# Altium schematic symbol library pporyzala-TI_Lighting.SchLib: 745 symbols (part 9 of 48)
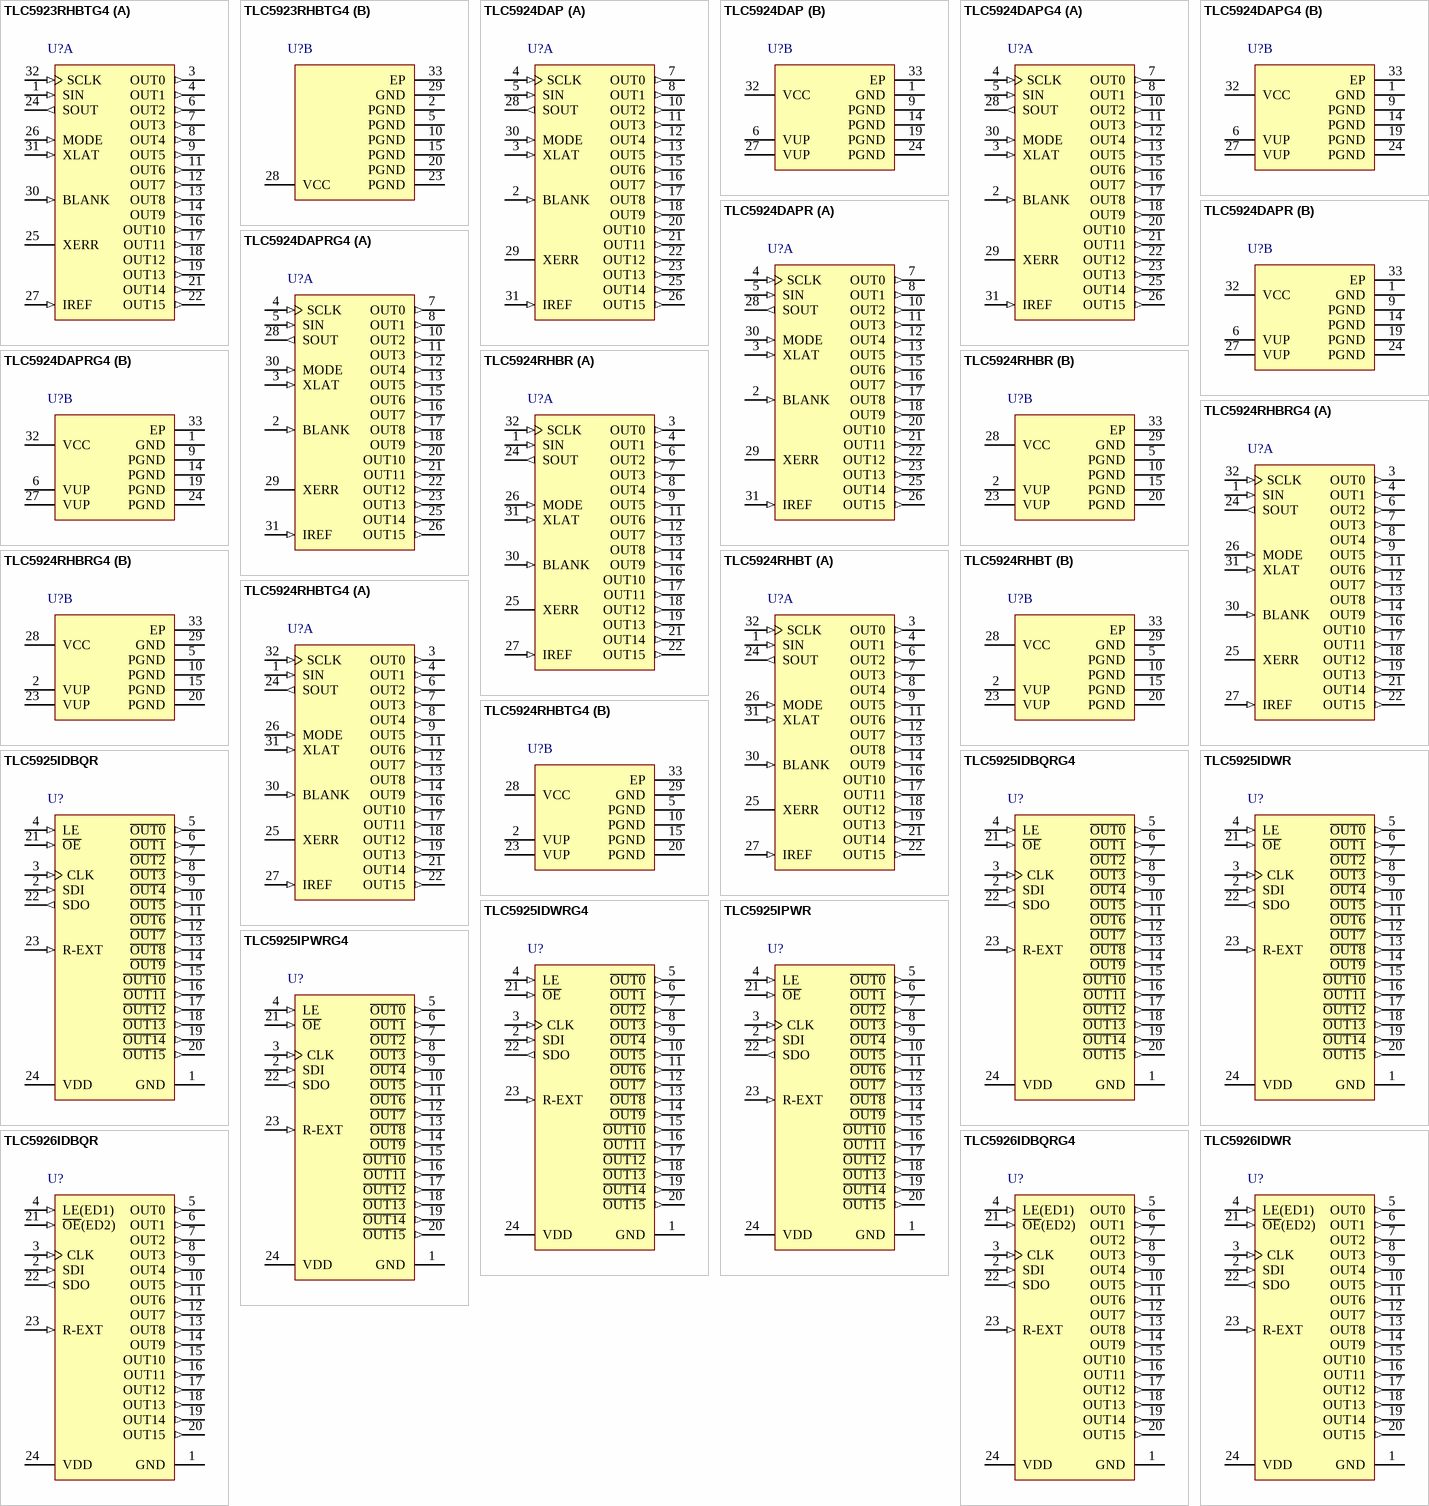
[diagram p39: symbols TLC5923RHBTG4 to TLC5926IDWR]

## TLC5925IPWR
designator U?
Low-Power 16-Channel Constant-Current LED Sink Driver, 3 to 5.5 V, -40 to 85 degC, 24-pin SOP (PW24), Green (RoHS & no Sb/Br); Manufacturer: Texas Instruments; PartNumber: TLC5925IPWR; Iout(Max)(A): 0.045; Rating: Catalog; SubFamily: Signage/Linear; Vin(Max)(V): 5.5; Vin(Min)(V): 3; DatasheetVersion: SLVS765; PackageVersion: 4040064-6/G; PackageReference: PW24; PackageDescription: 24-Pin Plastic Small Outline, Body 7.8 x 4.4 mm, Pitch 0.65 mm; Supplier 1: Digi-Key; Supplier Part Number 1: 296-24466-2-ND; Supplier 2: Digi-Key; Supplier Part Number 2: 296-24466-1-ND; Supplier 3: Digi-Key; Supplier Part Number 3: 296-24466-6-ND; Supplier 4: Farnell; Supplier Part Number 4: 1694439; Supplier 5: Farnell; Supplier Part Number 5: 1694439RL; Supplier 6: Newark; Supplier Part Number 6: 46P3785; Supplier 7: Newark; Supplier Part Number 7: 25P9046; Supplier 8: Mouser; Supplier Part Number 8: 595-TLC5925IPWR; Eco-Plan: Green (RoHS & no Sb/Br); Mounting Technology: Surface Mount; Code_JEDEC: MO-153; ComponentLink1Description: Manufacturer URL; ComponentLink1URL: http://www.ti.com/; ComponentLink2Description: Datasheet; ComponentLink2URL: http://www.ti.com/general/docs/lit/getliterature.tsp?genericPartNumber=TLC5925&fileType=pdf; ComponentLink3Description: Package Specification; ComponentLink3URL: http://www.ti.com/litv/pdf/mpds363
footprint TI-PW24_N (SOP, 24-Leads, Body 7.8x4.4mm, Pitch 0.65mm, , IPC Medium Density)
footprint TI-PW24_L (SOP, 24-Leads, Body 7.8x4.4mm, Pitch 0.65mm, , IPC High Density)
footprint TI-PW24_M (SOP, 24-Leads, Body 7.8x4.4mm, Pitch 0.65mm, , IPC Low Density)
pins: 1 GND (power) "Ground for control logic and current sink", 2 SDI (in) "Serial-data input to the Shift register", 3 CLK (in) "Clock input for data shift on rising edge", 4 LE (in) "Data strobe input Serial data is transferred to the respective latch when LE is high.The data is latched when LE low.LE has an internal pull-down resistor.", 5 ~{OUT0} (out) "Constant-current output", 6 ~{OUT1} (out) "Constant-current output", 7 ~{OUT2} (out) "Constant-current output", 8 ~{OUT3} (out) "Constant-current output", 9 ~{OUT4} (out) "Constant-current output", 10 ~{OUT5} (out) "Constant-current output", 11 ~{OUT6} (out) "Constant-current output", 12 ~{OUT7} (out) "Constant-current output", 13 ~{OUT8} (out) "Constant-current output", 14 ~{OUT9} (out) "Constant-current output", 15 ~{OUT10} (out) "Constant-current output", 16 ~{OUT11} (out) "Constant-current output", 17 ~{OUT12} (out) "Constant-current output", 18 ~{OUT13} (out) "Constant-current output", 19 ~{OUT14} (out) "Constant-current output", 20 ~{OUT15} (out) "Constant-current output", 21 ~{OE} (in) "Output enable.When O\E\ is active (low), the output driver are enabled.When O\E\ is high ,all output drivers are turned OFF (blanked). O\E\ has an internal pullup resistor.", 22 SDO (out) "Serial-data output to the following SDI of next driver IC or to the microcontroller", 23 R-EXT (in) "Input used to connect an external resistor (Rext) for setting output currents", 24 VDD (power) "Supply voltage"

## TLC5925IPWRG4
designator U?
Low-Power 16-Channel Constant-Current LED Sink Driver, 3 to 5.5 V, -40 to 85 degC, 24-pin SOP (PW24), Green (RoHS & no Sb/Br); Manufacturer: Texas Instruments; PartNumber: TLC5925IPWRG4; Iout(Max)(A): 0.045; Rating: Catalog; SubFamily: Signage/Linear; Vin(Max)(V): 5.5; Vin(Min)(V): 3; DatasheetVersion: SLVS765; PackageVersion: 4040064-6/G; PackageReference: PW24; PackageDescription: 24-Pin Plastic Small Outline, Body 7.8 x 4.4 mm, Pitch 0.65 mm; Supplier 1: Digi-Key; Supplier Part Number 1: TLC5925IPWRG4-ND; Supplier 2: Newark; Supplier Part Number 2: 25P9047; Supplier 3: Mouser; Supplier Part Number 3: 595-TLC5925IPWRG4; Eco-Plan: Green (RoHS & no Sb/Br); Mounting Technology: Surface Mount; Code_JEDEC: MO-153; ComponentLink1Description: Manufacturer URL; ComponentLink1URL: http://www.ti.com/; ComponentLink2Description: Datasheet; ComponentLink2URL: http://www.ti.com/general/docs/lit/getliterature.tsp?genericPartNumber=TLC5925&fileType=pdf; ComponentLink3Description: Package Specification; ComponentLink3URL: http://www.ti.com/litv/pdf/mpds363
footprint TI-PW24_N (SOP, 24-Leads, Body 7.8x4.4mm, Pitch 0.65mm, , IPC Medium Density)
footprint TI-PW24_L (SOP, 24-Leads, Body 7.8x4.4mm, Pitch 0.65mm, , IPC High Density)
footprint TI-PW24_M (SOP, 24-Leads, Body 7.8x4.4mm, Pitch 0.65mm, , IPC Low Density)
pins: 1 GND (power) "Ground for control logic and current sink", 2 SDI (in) "Serial-data input to the Shift register", 3 CLK (in) "Clock input for data shift on rising edge", 4 LE (in) "Data strobe input Serial data is transferred to the respective latch when LE is high.The data is latched when LE low.LE has an internal pull-down resistor.", 5 ~{OUT0} (out) "Constant-current output", 6 ~{OUT1} (out) "Constant-current output", 7 ~{OUT2} (out) "Constant-current output", 8 ~{OUT3} (out) "Constant-current output", 9 ~{OUT4} (out) "Constant-current output", 10 ~{OUT5} (out) "Constant-current output", 11 ~{OUT6} (out) "Constant-current output", 12 ~{OUT7} (out) "Constant-current output", 13 ~{OUT8} (out) "Constant-current output", 14 ~{OUT9} (out) "Constant-current output", 15 ~{OUT10} (out) "Constant-current output", 16 ~{OUT11} (out) "Constant-current output", 17 ~{OUT12} (out) "Constant-current output", 18 ~{OUT13} (out) "Constant-current output", 19 ~{OUT14} (out) "Constant-current output", 20 ~{OUT15} (out) "Constant-current output", 21 ~{OE} (in) "Output enable.When O\E\ is active (low), the output driver are enabled.When O\E\ is high ,all output drivers are turned OFF (blanked). O\E\ has an internal pullup resistor.", 22 SDO (out) "Serial-data output to the following SDI of next driver IC or to the microcontroller", 23 R-EXT (in) "Input used to connect an external resistor (Rext) for setting output currents", 24 VDD (power) "Supply voltage"

## TLC5926IDBQR
designator U?
16-Bit Constant-Current LED Sink Driver, 3 to 5.5 V, -40 to 85 degC, 24-pin SOP (DBQ24), Green (RoHS & no Sb/Br); Manufacturer: Texas Instruments; PartNumber: TLC5926IDBQR; Rating: Catalog; SubFamily: LED Driver; Vin(Max)(V): 5.5; Vin(Min)(V): 3; DatasheetVersion: SLVS677; PackageVersion: 4073301-4/H; PackageReference: DBQ24; PackageDescription: 24-Pin Plastic Small-Outline, Body 8.65 x 3.90 mm, Pitch 0.635 mm; Supplier 1: Digi-Key; Supplier Part Number 1: 296-24760-2-ND; Supplier 2: Digi-Key; Supplier Part Number 2: 296-24760-1-ND; Supplier 3: Digi-Key; Supplier Part Number 3: 296-24760-6-ND; Supplier 4: Newark; Supplier Part Number 4: 03P5000; Supplier 5: Mouser; Supplier Part Number 5: 595-TLC5926IDBQR; Eco-Plan: Green (RoHS & no Sb/Br); Mounting Technology: Surface Mount; Code_JEDEC: MO-137; ComponentLink1Description: Manufacturer URL; ComponentLink1URL: http://www.ti.com/; ComponentLink2Description: Datasheet; ComponentLink2URL: http://www.ti.com/general/docs/lit/getliterature.tsp?genericPartNumber=TLC5926&fileType=pdf; ComponentLink3Description: Package Specification; ComponentLink3URL: http://www.ti.com/litv/pdf/mpds211a
footprint TI-DBQ24_N (SOP, 24-Leads, Body 8.65x6mm, Pitch 0.635mm, IPC Medium Density)
footprint TI-DBQ24_L (SOP, 24-Leads, Body 8.65x6mm, Pitch 0.635mm, IPC High Density)
footprint TI-DBQ24_M (SOP, 24-Leads, Body 8.65x6mm, Pitch 0.635mm, IPC Low Density)
pins: 1 GND (power) "Ground pin for control logic and current sink", 2 SDI (in) "Serial-data input to the Shift register", 3 CLK (in) "Clock input pin for data shift on rising edge", 4 LE(ED1) (in) "Data strobe input pn Serial data is transferred to the respective latch when LE(ED1) is high. The data is latched when LE(ED1) goes low. Also, a control signal input for an Error Detection mode and Current Adjust mode (See (See Datasheet)", 5 OUT0 (out) "Constant-current output pin", 6 OUT1 (out) "Constant-current output pin", 7 OUT2 (out) "Constant-current output pin", 8 OUT3 (out) "Constant-current output pin", 9 OUT4 (out) "Constant-current output pin", 10 OUT5 (out) "Constant-current output pin", 11 OUT6 (out) "Constant-current output pin", 12 OUT7 (out) "Constant-current output pin", 13 OUT8 (out) "Constant-current output pin", 14 OUT9 (out) "Constant-current output pin", 15 OUT10 (out) "Constant-current output pin", 16 OUT11 (out) "Constant-current output pin", 17 OUT12 (out) "Constant-current output pin", 18 OUT13 (out) "Constant-current output pin", 19 OUT14 (out) "Constant-current output pin", 20 OUT15 (out) "Constant-current output pin", 21 ~{OE}(ED2) (in) "Output enable pin. When O\E\(ED2)(active) is low, the output drivers are enabled; when O\E\(ED2) is high, all output drivers are turned OFF (blanked). Also, a control signal input for an Error Detection mode and Current (See Datasheet)", 22 SDO (out) "Serial-data output to the following SDI of next driver IC or to the microcontroller", 23 R-EXT (in) "Input pin used to connect an external resistor for setting up all output currents", 24 VDD (power) "Supply voltage pin"

## TLC5926IDBQRG4
designator U?
16-Bit Constant-Current LED Sink Driver, 3 to 5.5 V, -40 to 85 degC, 24-pin SOP (DBQ24), Green (RoHS & no Sb/Br); Manufacturer: Texas Instruments; PartNumber: TLC5926IDBQRG4; Rating: Catalog; SubFamily: LED Driver; Vin(Max)(V): 5.5; Vin(Min)(V): 3; DatasheetVersion: SLVS677; PackageVersion: 4073301-4/H; PackageReference: DBQ24; PackageDescription: 24-Pin Plastic Small-Outline, Body 8.65 x 3.90 mm, Pitch 0.635 mm; Supplier 1: Digi-Key; Supplier Part Number 1: TLC5926IDBQRG4-ND; Supplier 2: Mouser; Supplier Part Number 2: 595-TLC5926IDBQRG4; Eco-Plan: Green (RoHS & no Sb/Br); Mounting Technology: Surface Mount; Code_JEDEC: MO-137; ComponentLink1Description: Manufacturer URL; ComponentLink1URL: http://www.ti.com/; ComponentLink2Description: Datasheet; ComponentLink2URL: http://www.ti.com/general/docs/lit/getliterature.tsp?genericPartNumber=TLC5926&fileType=pdf; ComponentLink3Description: Package Specification; ComponentLink3URL: http://www.ti.com/litv/pdf/mpds211a
footprint TI-DBQ24_N (SOP, 24-Leads, Body 8.65x6mm, Pitch 0.635mm, IPC Medium Density)
footprint TI-DBQ24_L (SOP, 24-Leads, Body 8.65x6mm, Pitch 0.635mm, IPC High Density)
footprint TI-DBQ24_M (SOP, 24-Leads, Body 8.65x6mm, Pitch 0.635mm, IPC Low Density)
pins: 1 GND (power) "Ground pin for control logic and current sink", 2 SDI (in) "Serial-data input to the Shift register", 3 CLK (in) "Clock input pin for data shift on rising edge", 4 LE(ED1) (in) "Data strobe input pn Serial data is transferred to the respective latch when LE(ED1) is high. The data is latched when LE(ED1) goes low. Also, a control signal input for an Error Detection mode and Current Adjust mode (See (See Datasheet)", 5 OUT0 (out) "Constant-current output pin", 6 OUT1 (out) "Constant-current output pin", 7 OUT2 (out) "Constant-current output pin", 8 OUT3 (out) "Constant-current output pin", 9 OUT4 (out) "Constant-current output pin", 10 OUT5 (out) "Constant-current output pin", 11 OUT6 (out) "Constant-current output pin", 12 OUT7 (out) "Constant-current output pin", 13 OUT8 (out) "Constant-current output pin", 14 OUT9 (out) "Constant-current output pin", 15 OUT10 (out) "Constant-current output pin", 16 OUT11 (out) "Constant-current output pin", 17 OUT12 (out) "Constant-current output pin", 18 OUT13 (out) "Constant-current output pin", 19 OUT14 (out) "Constant-current output pin", 20 OUT15 (out) "Constant-current output pin", 21 ~{OE}(ED2) (in) "Output enable pin. When O\E\(ED2)(active) is low, the output drivers are enabled; when O\E\(ED2) is high, all output drivers are turned OFF (blanked). Also, a control signal input for an Error Detection mode and Current (See Datasheet)", 22 SDO (out) "Serial-data output to the following SDI of next driver IC or to the microcontroller", 23 R-EXT (in) "Input pin used to connect an external resistor for setting up all output currents", 24 VDD (power) "Supply voltage pin"

## TLC5926IDWR
designator U?
16-Bit Constant-Current LED Sink Driver, 3 to 5.5 V, -40 to 85 degC, 24-pin SOIC (DW24), Green (RoHS & no Sb/Br); Manufacturer: Texas Instruments; PartNumber: TLC5926IDWR; Rating: Catalog; SubFamily: LED Driver; Vin(Max)(V): 5.5; Vin(Min)(V): 3; DatasheetVersion: SLVS677; PackageVersion: 4040000-5/G; PackageReference: DW24; PackageDescription: 24-Pin Plastic Small Outline, Body 15.4 x 7.5 mm, Pitch 1.27 mm; Supplier 1: Digi-Key; Supplier Part Number 1: 296-24467-2-ND; Supplier 2: Digi-Key; Supplier Part Number 2: 296-24467-1-ND; Supplier 3: Digi-Key; Supplier Part Number 3: 296-24467-6-ND; Supplier 4: Newark; Supplier Part Number 4: 45P8216; Supplier 5: Mouser; Supplier Part Number 5: 595-TLC5926IDWR; Eco-Plan: Green (RoHS & no Sb/Br); Mounting Technology: Surface Mount; Code_JEDEC: MS-013; ComponentLink1Description: Manufacturer URL; ComponentLink1URL: http://www.ti.com/; ComponentLink2Description: Datasheet; ComponentLink2URL: http://www.ti.com/general/docs/lit/getliterature.tsp?genericPartNumber=TLC5926&fileType=pdf; ComponentLink3Description: Package Specification; ComponentLink3URL: http://www.ti.com/litv/pdf/mpds174a
footprint TI-DW24_N (SOIC, 24-Leads, Body 15.4x7.5mm, Pitch 1.27mm, IPC Medium Density)
footprint TI-DW24_L (SOIC, 24-Leads, Body 15.4x7.5mm, Pitch 1.27mm, IPC High Density)
footprint TI-DW24_M (SOIC, 24-Leads, Body 15.4x7.5mm, Pitch 1.27mm, IPC Low Density)
pins: 1 GND (power) "Ground pin for control logic and current sink", 2 SDI (in) "Serial-data input to the Shift register", 3 CLK (in) "Clock input pin for data shift on rising edge", 4 LE(ED1) (in) "Data strobe input pn Serial data is transferred to the respective latch when LE(ED1) is high. The data is latched when LE(ED1) goes low. Also, a control signal input for an Error Detection mode and Current Adjust mode (See (See Datasheet)", 5 OUT0 (out) "Constant-current output pin", 6 OUT1 (out) "Constant-current output pin", 7 OUT2 (out) "Constant-current output pin", 8 OUT3 (out) "Constant-current output pin", 9 OUT4 (out) "Constant-current output pin", 10 OUT5 (out) "Constant-current output pin", 11 OUT6 (out) "Constant-current output pin", 12 OUT7 (out) "Constant-current output pin", 13 OUT8 (out) "Constant-current output pin", 14 OUT9 (out) "Constant-current output pin", 15 OUT10 (out) "Constant-current output pin", 16 OUT11 (out) "Constant-current output pin", 17 OUT12 (out) "Constant-current output pin", 18 OUT13 (out) "Constant-current output pin", 19 OUT14 (out) "Constant-current output pin", 20 OUT15 (out) "Constant-current output pin", 21 ~{OE}(ED2) (in) "Output enable pin. When O\E\(ED2)(active) is low, the output drivers are enabled; when O\E\(ED2) is high, all output drivers are turned OFF (blanked). Also, a control signal input for an Error Detection mode and Current (See Datasheet)", 22 SDO (out) "Serial-data output to the following SDI of next driver IC or to the microcontroller", 23 R-EXT (in) "Input pin used to connect an external resistor for setting up all output currents", 24 VDD (power) "Supply voltage pin"

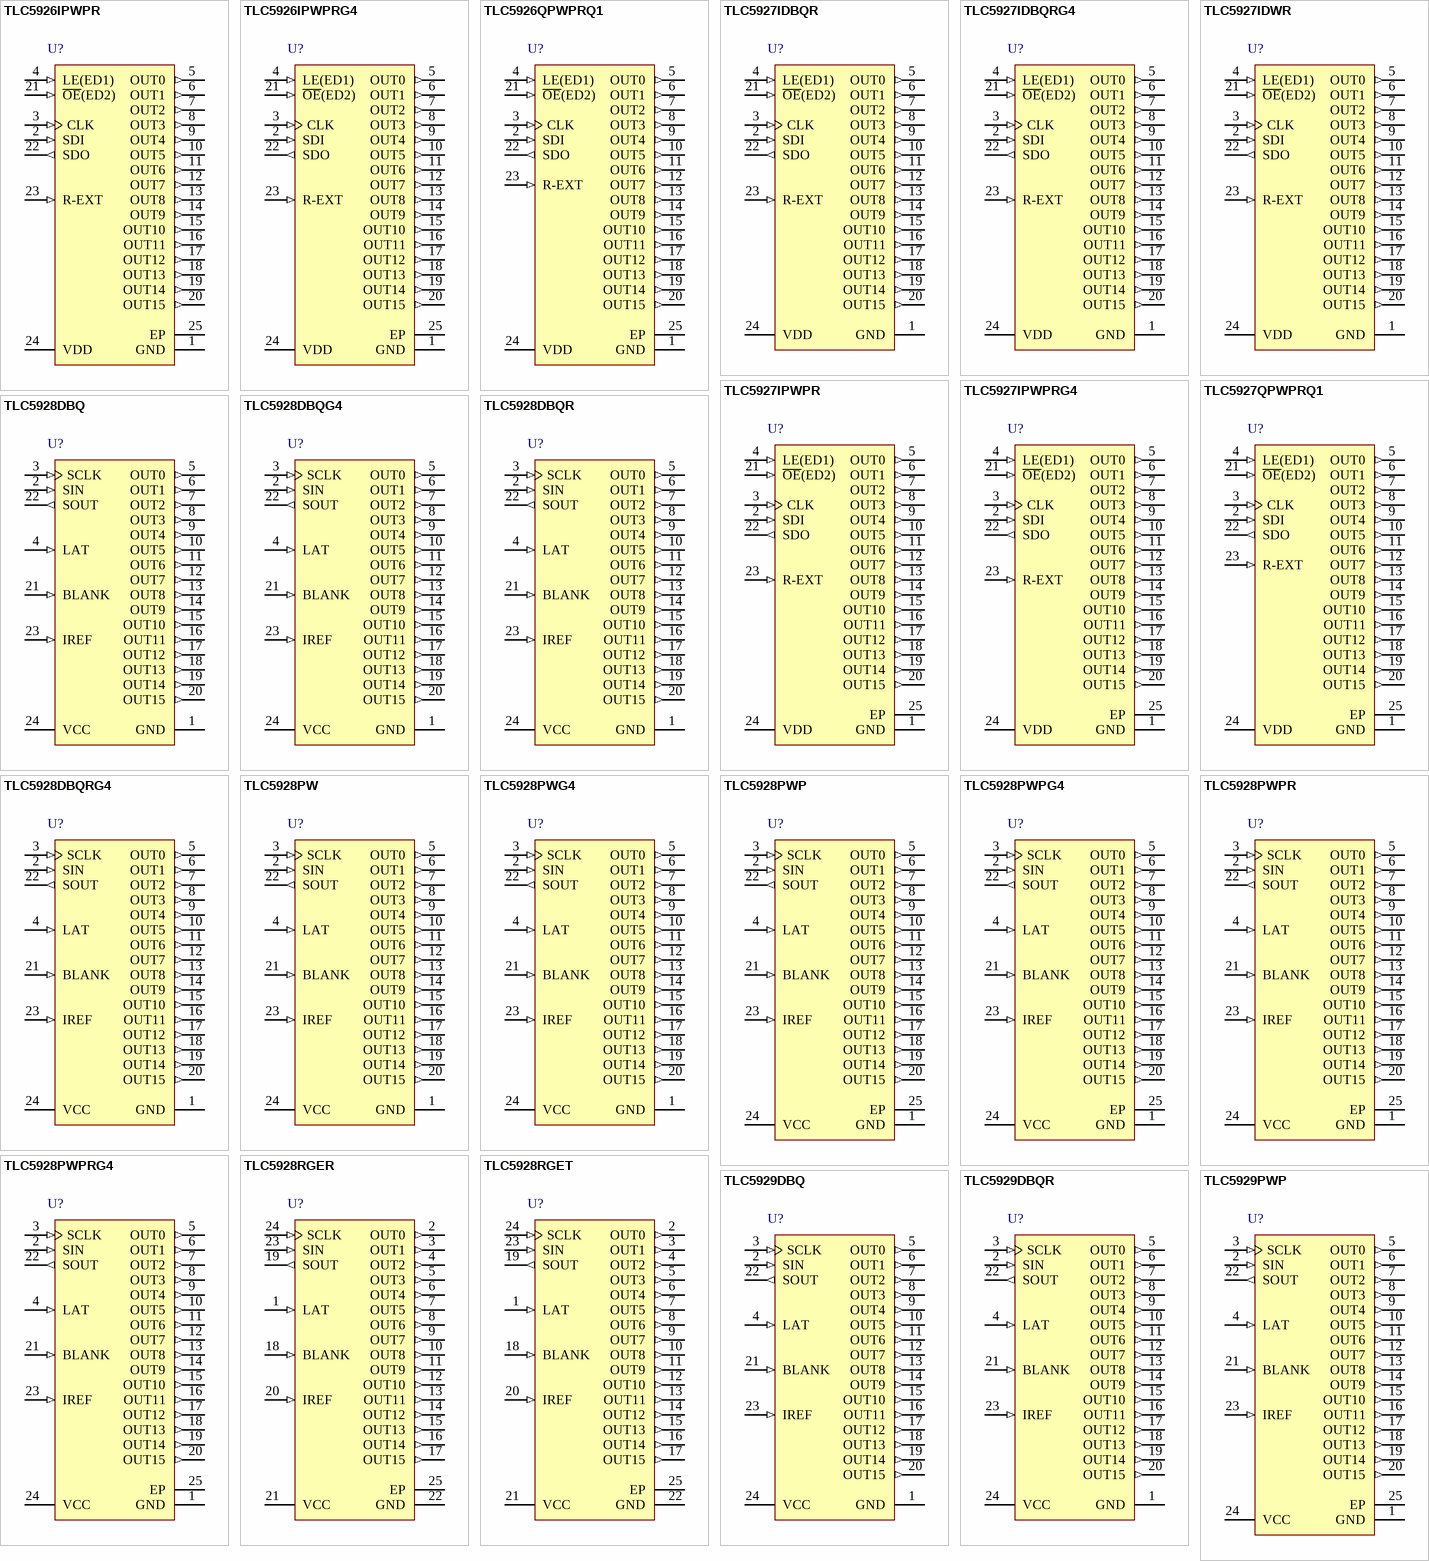
[diagram p7: symbols TLC5926IPWPR to TLC5929PWP]

## TLC5926IPWPR
designator U?
16-Bit Constant-Current LED Sink Driver, 3 to 5.5 V, -40 to 85 degC, 24-pin SOP (PWP24), Green (RoHS & no Sb/Br); Manufacturer: Texas Instruments; PartNumber: TLC5926IPWPR; Rating: Catalog; SubFamily: LED Driver; Vin(Max)(V): 5.5; Vin(Min)(V): 3; DatasheetVersion: SLVS677; PackageVersion: 4073225-5/I; PackageReference: PWP24-4420X1950TP; PackageDescription: 24-Lead, Plastic Small Outline, Body Size 4.4 x 7.8 mm, Pitch 0.65 mm; Supplier 1: Digi-Key; Supplier Part Number 1: 296-24761-2-ND; Supplier 2: Digi-Key; Supplier Part Number 2: 296-24761-1-ND; Supplier 3: Digi-Key; Supplier Part Number 3: 296-24761-6-ND; Supplier 4: Newark; Supplier Part Number 4: 03P5002; Supplier 5: Mouser; Supplier Part Number 5: 595-TLC5926IPWPR; Eco-Plan: Green (RoHS & no Sb/Br); Mounting Technology: Surface Mount; Code_JEDEC: MO-153; ComponentLink1Description: Manufacturer URL; ComponentLink1URL: http://www.ti.com/; ComponentLink2Description: Datasheet; ComponentLink2URL: http://www.ti.com/general/docs/lit/getliterature.tsp?genericPartNumber=TLC5926&fileType=pdf; ComponentLink3Description: Package Specification; ComponentLink3URL: http://www.ti.com/lit/ds/symlink/tps65101.pdf
footprint TI-PWP24-4420X1950TP_N (SOP, 24-Leads, Body 7.8x4.4mm, Pitch 0.65mm, Thermal Pad 4.42x1.95mm, IPC Medium Density)
footprint TI-PWP24-4420X1950TP_L (SOP, 24-Leads, Body 7.8x4.4mm, Pitch 0.65mm, Thermal Pad 4.42x1.95mm, IPC High Density)
footprint TI-PWP24-4420X1950TP_M (SOP, 24-Leads, Body 7.8x4.4mm, Pitch 0.65mm, Thermal Pad 4.42x1.95mm, IPC Low Density)
pins: 1 GND (power) "Ground pin for control logic and current sink", 2 SDI (in) "Serial-data input to the Shift register", 3 CLK (in) "Clock input pin for data shift on rising edge", 4 LE(ED1) (in) "Data strobe input pin Serial data is transferred to the respective latch when LE(ED1) is high. The data is latched when LE(ED1) goes low. Also, a control signal input for an Error Detection mode and Current Adjust mode (See (See Datasheet)", 5 OUT0 (out) "Constant-current output pin", 6 OUT1 (out) "Constant-current output pin", 7 OUT2 (out) "Constant-current output pin", 8 OUT3 (out) "Constant-current output pin", 9 OUT4 (out) "Constant-current output pin", 10 OUT5 (out) "Constant-current output pin", 11 OUT6 (out) "Constant-current output pin", 12 OUT7 (out) "Constant-current output pin", 13 OUT8 (out) "Constant-current output pin", 14 OUT9 (out) "Constant-current output pin", 15 OUT10 (out) "Constant-current output pin", 16 OUT11 (out) "Constant-current output pin", 17 OUT12 (out) "Constant-current output pin", 18 OUT13 (out) "Constant-current output pin", 19 OUT14 (out) "Constant-current output pin", 20 OUT15 (out) "Constant-current output pin", 21 ~{OE}(ED2) (in) "Output enable pin. When O\E\ (ED2)(active) is low, the output drivers are enabled; when O\E\(ED2) is high, all output drivers are turned OFF (blanked). Also, a control signal input for an Error Detection mode and Current (See Datasheet)", 22 SDO (out) "Serial-data output to the following SDI of next driver IC or to the microcontroller", 23 R-EXT (in) "Input pin used to connect an external resistor for setting up all output currents", 24 VDD (power) "Supply voltage pin", 25 EP "Exposed thermal pad"

## TLC5926IPWPRG4
designator U?
16-Bit Constant-Current LED Sink Driver, 3 to 5.5 V, -40 to 85 degC, 24-pin SOP (PWP24), Green (RoHS & no Sb/Br); Manufacturer: Texas Instruments; PartNumber: TLC5926IPWPRG4; Rating: Catalog; SubFamily: LED Driver; Vin(Max)(V): 5.5; Vin(Min)(V): 3; DatasheetVersion: SLVS677; PackageVersion: 4073225-5/I; PackageReference: PWP24-4420X1950TP; PackageDescription: 24-Lead, Plastic Small Outline, Body Size 4.4 x 7.8 mm, Pitch 0.65 mm; Supplier 1: Digi-Key; Supplier Part Number 1: TLC5926IPWPRG4-ND; Supplier 2: Mouser; Supplier Part Number 2: 595-TLC5926IPWPRG4; Eco-Plan: Green (RoHS & no Sb/Br); Mounting Technology: Surface Mount; Code_JEDEC: MO-153; ComponentLink1Description: Manufacturer URL; ComponentLink1URL: http://www.ti.com/; ComponentLink2Description: Datasheet; ComponentLink2URL: http://www.ti.com/general/docs/lit/getliterature.tsp?genericPartNumber=TLC5926&fileType=pdf; ComponentLink3Description: Package Specification; ComponentLink3URL: http://www.ti.com/lit/ds/symlink/tps65101.pdf
footprint TI-PWP24-4420X1950TP_N (SOP, 24-Leads, Body 7.8x4.4mm, Pitch 0.65mm, Thermal Pad 4.42x1.95mm, IPC Medium Density)
footprint TI-PWP24-4420X1950TP_L (SOP, 24-Leads, Body 7.8x4.4mm, Pitch 0.65mm, Thermal Pad 4.42x1.95mm, IPC High Density)
footprint TI-PWP24-4420X1950TP_M (SOP, 24-Leads, Body 7.8x4.4mm, Pitch 0.65mm, Thermal Pad 4.42x1.95mm, IPC Low Density)
pins: 1 GND (power) "Ground pin for control logic and current sink", 2 SDI (in) "Serial-data input to the Shift register", 3 CLK (in) "Clock input pin for data shift on rising edge", 4 LE(ED1) (in) "Data strobe input pin Serial data is transferred to the respective latch when LE(ED1) is high. The data is latched when LE(ED1) goes low. Also, a control signal input for an Error Detection mode and Current Adjust mode (See (See Datasheet)", 5 OUT0 (out) "Constant-current output pin", 6 OUT1 (out) "Constant-current output pin", 7 OUT2 (out) "Constant-current output pin", 8 OUT3 (out) "Constant-current output pin", 9 OUT4 (out) "Constant-current output pin", 10 OUT5 (out) "Constant-current output pin", 11 OUT6 (out) "Constant-current output pin", 12 OUT7 (out) "Constant-current output pin", 13 OUT8 (out) "Constant-current output pin", 14 OUT9 (out) "Constant-current output pin", 15 OUT10 (out) "Constant-current output pin", 16 OUT11 (out) "Constant-current output pin", 17 OUT12 (out) "Constant-current output pin", 18 OUT13 (out) "Constant-current output pin", 19 OUT14 (out) "Constant-current output pin", 20 OUT15 (out) "Constant-current output pin", 21 ~{OE}(ED2) (in) "Output enable pin. When O\E\ (ED2)(active) is low, the output drivers are enabled; when O\E\(ED2) is high, all output drivers are turned OFF (blanked). Also, a control signal input for an Error Detection mode and Current (See Datasheet)", 22 SDO (out) "Serial-data output to the following SDI of next driver IC or to the microcontroller", 23 R-EXT (in) "Input pin used to connect an external resistor for setting up all output currents", 24 VDD (power) "Supply voltage pin", 25 EP "Exposed thermal pad"

## TLC5926QPWPRQ1
designator U?
Automotive Catalog 16-Bit Constant-Current LED Sink Driver, 3 to 5.5 V, -40 to 125 degC, 24-pin SOP (PWP24), Green (RoHS & no Sb/Br); Manufacturer: Texas Instruments; PartNumber: TLC5926QPWPRQ1; Iout(Max)(A): 0.12; SubFamily: LED Driver; Vin(Max)(V): 5.5; Vin(Min)(V): 3; DatasheetVersion: SLVS973; PackageVersion: 4073225-5/I; PackageReference: PWP24-4420X1950TP; PackageDescription: 24-Lead, Plastic Small Outline, Body Size 4.4 x 7.8 mm, Pitch 0.65 mm; Supplier 1: Digi-Key; Supplier Part Number 1: 296-24948-2-ND; Supplier 2: Digi-Key; Supplier Part Number 2: 296-24948-1-ND; Supplier 3: Digi-Key; Supplier Part Number 3: 296-24948-6-ND; Supplier 4: Newark; Supplier Part Number 4: 24R9990; Supplier 5: Mouser; Supplier Part Number 5: 595-TLC5926QPWPRQ1; Eco-Plan: Green (RoHS & no Sb/Br); Mounting Technology: Surface Mount; Code_JEDEC: MO-153; ComponentLink1Description: Manufacturer URL; ComponentLink1URL: http://www.ti.com/; ComponentLink2Description: Datasheet; ComponentLink2URL: http://www.ti.com/general/docs/lit/getliterature.tsp?genericPartNumber=TLC5926-Q1&fileType=pdf; ComponentLink3Description: Package Specification; ComponentLink3URL: http://www.ti.com/lit/ds/symlink/tps65101.pdf
footprint TI-PWP24-4420X1950TP_N (SOP, 24-Leads, Body 7.8x4.4mm, Pitch 0.65mm, Thermal Pad 4.42x1.95mm, IPC Medium Density)
footprint TI-PWP24-4420X1950TP_L (SOP, 24-Leads, Body 7.8x4.4mm, Pitch 0.65mm, Thermal Pad 4.42x1.95mm, IPC High Density)
footprint TI-PWP24-4420X1950TP_M (SOP, 24-Leads, Body 7.8x4.4mm, Pitch 0.65mm, Thermal Pad 4.42x1.95mm, IPC Low Density)
pins: 1 GND (power) "Ground for control logic and current sink", 2 SDI (in) "Serial-data input to the Shift register", 3 CLK (in) "Clock input for data shift on rising edge", 4 LE(ED1) (in) "Data strobe input   Serial data is transferred to the respective latch when LE(ED1) is high. The data is latched when LE(ED1) goes low. Also, a control signal input for an Error Detection mode and Current Adjust mode (See (See Datasheet)", 5 OUT0 (out) "Constant-current output", 6 OUT1 (out) "Constant-current output", 7 OUT2 (out) "Constant-current output", 8 OUT3 (out) "Constant-current output", 9 OUT4 (out) "Constant-current output", 10 OUT5 (out) "Constant-current output", 11 OUT6 (out) "Constant-current output", 12 OUT7 (out) "Constant-current output", 13 OUT8 (out) "Constant-current output", 14 OUT9 (out) "Constant-current output", 15 OUT10 (out) "Constant-current output", 16 OUT11 (out) "Constant-current output", 17 OUT12 (out) "Constant-current output", 18 OUT13 (out) "Constant-current output", 19 OUT14 (out) "Constant-current output", 20 OUT15 (out) "Constant-current output", 21 ~{OE}(ED2) (in) "Output enable. When O\E\ (ED2)(active) is low, the output drivers are enabled; when O\E\(ED2) is high, all output drivers are turned OFF (blanked). Also, a control signal input for an Error Detection mode and Current Adjust (See Datasheet)", 22 SDO (out) "Serial-data output to the following SDI of next driver IC or to the microcontroller", 23 R-EXT (in) "Input pin used to connect an external resistor for setting up all output currents", 24 VDD (power) "Supply voltage", 25 EP (power) "Connect to GND. The thermal pad should be soldered to ground in all applications."

## TLC5927IDBQR
designator U?
16-Bit Constant-Current LED Sink Driver, 3 to 5.5 V, -40 to 85 degC, 24-pin SOP (DBQ24), Green (RoHS & no Sb/Br); Manufacturer: Texas Instruments; PartNumber: TLC5927IDBQR; Rating: Catalog; SubFamily: LED Driver; Vin(Max)(V): 5.5; Vin(Min)(V): 3; DatasheetVersion: SLVS677; PackageVersion: 4073301-4/H; PackageReference: DBQ24; PackageDescription: 24-Pin Plastic Small-Outline, Body 8.65 x 3.90 mm, Pitch 0.635 mm; Supplier 1: Digi-Key; Supplier Part Number 1: 296-24762-2-ND; Supplier 2: Digi-Key; Supplier Part Number 2: 296-24762-1-ND; Supplier 3: Digi-Key; Supplier Part Number 3: 296-24762-6-ND; Supplier 4: Farnell; Supplier Part Number 4: 1858095; Supplier 5: Farnell; Supplier Part Number 5: 1858095RL; Supplier 6: Farnell; Supplier Part Number 6: 1771998; Supplier 7: Newark; Supplier Part Number 7: 33R2185; Supplier 8: Mouser; Supplier Part Number 8: 595-TLC5927IDBQR; Eco-Plan: Green (RoHS & no Sb/Br); Mounting Technology: Surface Mount; Code_JEDEC: MO-137; ComponentLink1Description: Manufacturer URL; ComponentLink1URL: http://www.ti.com/; ComponentLink2Description: Datasheet; ComponentLink2URL: http://www.ti.com/general/docs/lit/getliterature.tsp?genericPartNumber=TLC5927&fileType=pdf; ComponentLink3Description: Package Specification; ComponentLink3URL: http://www.ti.com/litv/pdf/mpds211a
footprint TI-DBQ24_N (SOP, 24-Leads, Body 8.65x6mm, Pitch 0.635mm, IPC Medium Density)
footprint TI-DBQ24_L (SOP, 24-Leads, Body 8.65x6mm, Pitch 0.635mm, IPC High Density)
footprint TI-DBQ24_M (SOP, 24-Leads, Body 8.65x6mm, Pitch 0.635mm, IPC Low Density)
pins: 1 GND (power) "Ground pin for control logic and current sink", 2 SDI (in) "Serial-data input to the Shift register", 3 CLK (in) "Clock input pin for data shift on rising edge", 4 LE(ED1) (in) "Data strobe input pn Serial data is transferred to the respective latch when LE(ED1) is high. The data is latched when LE(ED1) goes low. Also, a control signal input for an Error Detection mode and Current Adjust mode (See (See Datasheet)", 5 OUT0 (out) "Constant-current output pin", 6 OUT1 (out) "Constant-current output pin", 7 OUT2 (out) "Constant-current output pin", 8 OUT3 (out) "Constant-current output pin", 9 OUT4 (out) "Constant-current output pin", 10 OUT5 (out) "Constant-current output pin", 11 OUT6 (out) "Constant-current output pin", 12 OUT7 (out) "Constant-current output pin", 13 OUT8 (out) "Constant-current output pin", 14 OUT9 (out) "Constant-current output pin", 15 OUT10 (out) "Constant-current output pin", 16 OUT11 (out) "Constant-current output pin", 17 OUT12 (out) "Constant-current output pin", 18 OUT13 (out) "Constant-current output pin", 19 OUT14 (out) "Constant-current output pin", 20 OUT15 (out) "Constant-current output pin", 21 ~{OE}(ED2) (in) "Output enable pin. When O\E\(ED2)(active) is low, the output drivers are enabled; when O\E\(ED2) is high, all output drivers are turned OFF (blanked). Also, a control signal input for an Error Detection mode and Current (See Datasheet)", 22 SDO (out) "Serial-data output to the following SDI of next driver IC or to the microcontroller", 23 R-EXT (in) "Input pin used to connect an external resistor for setting up all output currents", 24 VDD (power) "Supply voltage pin"

## TLC5927IDBQRG4
designator U?
16-Bit Constant-Current LED Sink Driver, 3 to 5.5 V, -40 to 85 degC, 24-pin SOP (DBQ24), Green (RoHS & no Sb/Br); Manufacturer: Texas Instruments; PartNumber: TLC5927IDBQRG4; Rating: Catalog; SubFamily: LED Driver; Vin(Max)(V): 5.5; Vin(Min)(V): 3; DatasheetVersion: SLVS677; PackageVersion: 4073301-4/H; PackageReference: DBQ24; PackageDescription: 24-Pin Plastic Small-Outline, Body 8.65 x 3.90 mm, Pitch 0.635 mm; Supplier 1: Digi-Key; Supplier Part Number 1: TLC5927IDBQRG4-ND; Supplier 2: Mouser; Supplier Part Number 2: 595-TLC5927IDBQRG4; Eco-Plan: Green (RoHS & no Sb/Br); Mounting Technology: Surface Mount; Code_JEDEC: MO-137; ComponentLink1Description: Manufacturer URL; ComponentLink1URL: http://www.ti.com/; ComponentLink2Description: Datasheet; ComponentLink2URL: http://www.ti.com/general/docs/lit/getliterature.tsp?genericPartNumber=TLC5927&fileType=pdf; ComponentLink3Description: Package Specification; ComponentLink3URL: http://www.ti.com/litv/pdf/mpds211a
footprint TI-DBQ24_N (SOP, 24-Leads, Body 8.65x6mm, Pitch 0.635mm, IPC Medium Density)
footprint TI-DBQ24_L (SOP, 24-Leads, Body 8.65x6mm, Pitch 0.635mm, IPC High Density)
footprint TI-DBQ24_M (SOP, 24-Leads, Body 8.65x6mm, Pitch 0.635mm, IPC Low Density)
pins: 1 GND (power) "Ground pin for control logic and current sink", 2 SDI (in) "Serial-data input to the Shift register", 3 CLK (in) "Clock input pin for data shift on rising edge", 4 LE(ED1) (in) "Data strobe input pn Serial data is transferred to the respective latch when LE(ED1) is high. The data is latched when LE(ED1) goes low. Also, a control signal input for an Error Detection mode and Current Adjust mode (See (See Datasheet)", 5 OUT0 (out) "Constant-current output pin", 6 OUT1 (out) "Constant-current output pin", 7 OUT2 (out) "Constant-current output pin", 8 OUT3 (out) "Constant-current output pin", 9 OUT4 (out) "Constant-current output pin", 10 OUT5 (out) "Constant-current output pin", 11 OUT6 (out) "Constant-current output pin", 12 OUT7 (out) "Constant-current output pin", 13 OUT8 (out) "Constant-current output pin", 14 OUT9 (out) "Constant-current output pin", 15 OUT10 (out) "Constant-current output pin", 16 OUT11 (out) "Constant-current output pin", 17 OUT12 (out) "Constant-current output pin", 18 OUT13 (out) "Constant-current output pin", 19 OUT14 (out) "Constant-current output pin", 20 OUT15 (out) "Constant-current output pin", 21 ~{OE}(ED2) (in) "Output enable pin. When O\E\(ED2)(active) is low, the output drivers are enabled; when O\E\(ED2) is high, all output drivers are turned OFF (blanked). Also, a control signal input for an Error Detection mode and Current (See Datasheet)", 22 SDO (out) "Serial-data output to the following SDI of next driver IC or to the microcontroller", 23 R-EXT (in) "Input pin used to connect an external resistor for setting up all output currents", 24 VDD (power) "Supply voltage pin"

## TLC5927IDWR
designator U?
16-Bit Constant-Current LED Sink Driver, 3 to 5.5 V, -40 to 85 degC, 24-pin SOIC (DW24), Green (RoHS & no Sb/Br); Manufacturer: Texas Instruments; PartNumber: TLC5927IDWR; Rating: Catalog; SubFamily: LED Driver; Vin(Max)(V): 5.5; Vin(Min)(V): 3; DatasheetVersion: SLVS677; PackageVersion: 4040000-5/G; PackageReference: DW24; PackageDescription: 24-Pin Plastic Small Outline, Body 15.4 x 7.5 mm, Pitch 1.27 mm; Supplier 1: Digi-Key; Supplier Part Number 1: 296-24468-2-ND; Supplier 2: Digi-Key; Supplier Part Number 2: 296-24468-1-ND; Supplier 3: Digi-Key; Supplier Part Number 3: 296-24468-6-ND; Supplier 4: Newark; Supplier Part Number 4: 45P8217; Supplier 5: Mouser; Supplier Part Number 5: 595-TLC5927IDWR; Eco-Plan: Green (RoHS & no Sb/Br); Mounting Technology: Surface Mount; Code_JEDEC: MS-013; ComponentLink1Description: Manufacturer URL; ComponentLink1URL: http://www.ti.com/; ComponentLink2Description: Datasheet; ComponentLink2URL: http://www.ti.com/general/docs/lit/getliterature.tsp?genericPartNumber=TLC5927&fileType=pdf; ComponentLink3Description: Package Specification; ComponentLink3URL: http://www.ti.com/litv/pdf/mpds174a
footprint TI-DW24_N (SOIC, 24-Leads, Body 15.4x7.5mm, Pitch 1.27mm, IPC Medium Density)
footprint TI-DW24_L (SOIC, 24-Leads, Body 15.4x7.5mm, Pitch 1.27mm, IPC High Density)
footprint TI-DW24_M (SOIC, 24-Leads, Body 15.4x7.5mm, Pitch 1.27mm, IPC Low Density)
pins: 1 GND (power) "Ground pin for control logic and current sink", 2 SDI (in) "Serial-data input to the Shift register", 3 CLK (in) "Clock input pin for data shift on rising edge", 4 LE(ED1) (in) "Data strobe input pn Serial data is transferred to the respective latch when LE(ED1) is high. The data is latched when LE(ED1) goes low. Also, a control signal input for an Error Detection mode and Current Adjust mode (See (See Datasheet)", 5 OUT0 (out) "Constant-current output pin", 6 OUT1 (out) "Constant-current output pin", 7 OUT2 (out) "Constant-current output pin", 8 OUT3 (out) "Constant-current output pin", 9 OUT4 (out) "Constant-current output pin", 10 OUT5 (out) "Constant-current output pin", 11 OUT6 (out) "Constant-current output pin", 12 OUT7 (out) "Constant-current output pin", 13 OUT8 (out) "Constant-current output pin", 14 OUT9 (out) "Constant-current output pin", 15 OUT10 (out) "Constant-current output pin", 16 OUT11 (out) "Constant-current output pin", 17 OUT12 (out) "Constant-current output pin", 18 OUT13 (out) "Constant-current output pin", 19 OUT14 (out) "Constant-current output pin", 20 OUT15 (out) "Constant-current output pin", 21 ~{OE}(ED2) (in) "Output enable pin. When O\E\(ED2)(active) is low, the output drivers are enabled; when O\E\(ED2) is high, all output drivers are turned OFF (blanked). Also, a control signal input for an Error Detection mode and Current (See Datasheet)", 22 SDO (out) "Serial-data output to the following SDI of next driver IC or to the microcontroller", 23 R-EXT (in) "Input pin used to connect an external resistor for setting up all output currents", 24 VDD (power) "Supply voltage pin"

## TLC5927IPWPR
designator U?
16-Bit Constant-Current LED Sink Driver, 3 to 5.5 V, -40 to 85 degC, 24-pin SOP (PWP24), Green (RoHS & no Sb/Br); Manufacturer: Texas Instruments; PartNumber: TLC5927IPWPR; Rating: Catalog; SubFamily: LED Driver; Vin(Max)(V): 5.5; Vin(Min)(V): 3; DatasheetVersion: SLVS677; PackageVersion: 4073225-5/I; PackageReference: PWP24-4420X1950TP; PackageDescription: 24-Lead, Plastic Small Outline, Body Size 4.4 x 7.8 mm, Pitch 0.65 mm; Supplier 1: Digi-Key; Supplier Part Number 1: 296-24763-2-ND; Supplier 2: Digi-Key; Supplier Part Number 2: 296-24763-1-ND; Supplier 3: Digi-Key; Supplier Part Number 3: 296-24763-6-ND; Supplier 4: Newark; Supplier Part Number 4: 03P5006; Supplier 5: Mouser; Supplier Part Number 5: 595-TLC5927IPWPR; Eco-Plan: Green (RoHS & no Sb/Br); Mounting Technology: Surface Mount; Code_JEDEC: MO-153; ComponentLink1Description: Manufacturer URL; ComponentLink1URL: http://www.ti.com/; ComponentLink2Description: Datasheet; ComponentLink2URL: http://www.ti.com/general/docs/lit/getliterature.tsp?genericPartNumber=TLC5927&fileType=pdf; ComponentLink3Description: Package Specification; ComponentLink3URL: http://www.ti.com/lit/ds/symlink/tps65101.pdf
footprint TI-PWP24-4420X1950TP_N (SOP, 24-Leads, Body 7.8x4.4mm, Pitch 0.65mm, Thermal Pad 4.42x1.95mm, IPC Medium Density)
footprint TI-PWP24-4420X1950TP_L (SOP, 24-Leads, Body 7.8x4.4mm, Pitch 0.65mm, Thermal Pad 4.42x1.95mm, IPC High Density)
footprint TI-PWP24-4420X1950TP_M (SOP, 24-Leads, Body 7.8x4.4mm, Pitch 0.65mm, Thermal Pad 4.42x1.95mm, IPC Low Density)
pins: 1 GND (power) "Ground pin for control logic and current sink", 2 SDI (in) "Serial-data input to the Shift register", 3 CLK (in) "Clock input pin for data shift on rising edge", 4 LE(ED1) (in) "Data strobe input pin Serial data is transferred to the respective latch when LE(ED1) is high. The data is latched when LE(ED1) goes low. Also, a control signal input for an Error Detection mode and Current Adjust mode (See (See Datasheet)", 5 OUT0 (out) "Constant-current output pin", 6 OUT1 (out) "Constant-current output pin", 7 OUT2 (out) "Constant-current output pin", 8 OUT3 (out) "Constant-current output pin", 9 OUT4 (out) "Constant-current output pin", 10 OUT5 (out) "Constant-current output pin", 11 OUT6 (out) "Constant-current output pin", 12 OUT7 (out) "Constant-current output pin", 13 OUT8 (out) "Constant-current output pin", 14 OUT9 (out) "Constant-current output pin", 15 OUT10 (out) "Constant-current output pin", 16 OUT11 (out) "Constant-current output pin", 17 OUT12 (out) "Constant-current output pin", 18 OUT13 (out) "Constant-current output pin", 19 OUT14 (out) "Constant-current output pin", 20 OUT15 (out) "Constant-current output pin", 21 ~{OE}(ED2) (in) "Output enable pin. When O\E\ (ED2)(active) is low, the output drivers are enabled; when O\E\(ED2) is high, all output drivers are turned OFF (blanked). Also, a control signal input for an Error Detection mode and Current (See Datasheet)", 22 SDO (out) "Serial-data output to the following SDI of next driver IC or to the microcontroller", 23 R-EXT (in) "Input pin used to connect an external resistor for setting up all output currents", 24 VDD (power) "Supply voltage pin", 25 EP "Exposed thermal pad"

## TLC5927IPWPRG4
designator U?
16-Bit Constant-Current LED Sink Driver, 3 to 5.5 V, -40 to 85 degC, 24-pin SOP (PWP24), Green (RoHS & no Sb/Br); Manufacturer: Texas Instruments; PartNumber: TLC5927IPWPRG4; Rating: Catalog; SubFamily: LED Driver; Vin(Max)(V): 5.5; Vin(Min)(V): 3; DatasheetVersion: SLVS677; PackageVersion: 4073225-5/I; PackageReference: PWP24-4420X1950TP; PackageDescription: 24-Lead, Plastic Small Outline, Body Size 4.4 x 7.8 mm, Pitch 0.65 mm; Supplier 1: Digi-Key; Supplier Part Number 1: TLC5927IPWPRG4-ND; Supplier 2: Mouser; Supplier Part Number 2: 595-TLC5927IPWPRG4; Eco-Plan: Green (RoHS & no Sb/Br); Mounting Technology: Surface Mount; Code_JEDEC: MO-153; ComponentLink1Description: Manufacturer URL; ComponentLink1URL: http://www.ti.com/; ComponentLink2Description: Datasheet; ComponentLink2URL: http://www.ti.com/general/docs/lit/getliterature.tsp?genericPartNumber=TLC5927&fileType=pdf; ComponentLink3Description: Package Specification; ComponentLink3URL: http://www.ti.com/lit/ds/symlink/tps65101.pdf
footprint TI-PWP24-4420X1950TP_N (SOP, 24-Leads, Body 7.8x4.4mm, Pitch 0.65mm, Thermal Pad 4.42x1.95mm, IPC Medium Density)
footprint TI-PWP24-4420X1950TP_L (SOP, 24-Leads, Body 7.8x4.4mm, Pitch 0.65mm, Thermal Pad 4.42x1.95mm, IPC High Density)
footprint TI-PWP24-4420X1950TP_M (SOP, 24-Leads, Body 7.8x4.4mm, Pitch 0.65mm, Thermal Pad 4.42x1.95mm, IPC Low Density)
pins: 1 GND (power) "Ground pin for control logic and current sink", 2 SDI (in) "Serial-data input to the Shift register", 3 CLK (in) "Clock input pin for data shift on rising edge", 4 LE(ED1) (in) "Data strobe input pin Serial data is transferred to the respective latch when LE(ED1) is high. The data is latched when LE(ED1) goes low. Also, a control signal input for an Error Detection mode and Current Adjust mode (See (See Datasheet)", 5 OUT0 (out) "Constant-current output pin", 6 OUT1 (out) "Constant-current output pin", 7 OUT2 (out) "Constant-current output pin", 8 OUT3 (out) "Constant-current output pin", 9 OUT4 (out) "Constant-current output pin", 10 OUT5 (out) "Constant-current output pin", 11 OUT6 (out) "Constant-current output pin", 12 OUT7 (out) "Constant-current output pin", 13 OUT8 (out) "Constant-current output pin", 14 OUT9 (out) "Constant-current output pin", 15 OUT10 (out) "Constant-current output pin", 16 OUT11 (out) "Constant-current output pin", 17 OUT12 (out) "Constant-current output pin", 18 OUT13 (out) "Constant-current output pin", 19 OUT14 (out) "Constant-current output pin", 20 OUT15 (out) "Constant-current output pin", 21 ~{OE}(ED2) (in) "Output enable pin. When O\E\ (ED2)(active) is low, the output drivers are enabled; when O\E\(ED2) is high, all output drivers are turned OFF (blanked). Also, a control signal input for an Error Detection mode and Current (See Datasheet)", 22 SDO (out) "Serial-data output to the following SDI of next driver IC or to the microcontroller", 23 R-EXT (in) "Input pin used to connect an external resistor for setting up all output currents", 24 VDD (power) "Supply voltage pin", 25 EP "Exposed thermal pad"

## TLC5927QPWPRQ1
designator U?
Automotive Catalog 16-Bit Constant-Current LED Sink Driver, 3 to 5.5 V, -40 to 125 degC, 24-pin SOP (PWP24), Green (RoHS & no Sb/Br); Manufacturer: Texas Instruments; PartNumber: TLC5927QPWPRQ1; SubFamily: LED Driver; Vin(Max)(V): 5.5; Vin(Min)(V): 3; DatasheetVersion: SLVS973; PackageVersion: 4073225-5/I; PackageReference: PWP24-4420X1950TP; PackageDescription: 24-Lead, Plastic Small Outline, Body Size 4.4 x 7.8 mm, Pitch 0.65 mm; Supplier 1: Digi-Key; Supplier Part Number 1: TLC5927QPWPRQ1-ND; Supplier 2: Newark; Supplier Part Number 2: 55R7454; Supplier 3: Mouser; Supplier Part Number 3: 595-TLC5927QPWPRQ1; Eco-Plan: Green (RoHS & no Sb/Br); Rating: Automotive; Mounting Technology: Surface Mount; Code_JEDEC: MO-153; ComponentLink1Description: Manufacturer URL; ComponentLink1URL: http://www.ti.com/; ComponentLink2Description: Datasheet; ComponentLink2URL: http://www.ti.com/general/docs/lit/getliterature.tsp?genericPartNumber=TLC5927-Q1&fileType=pdf; ComponentLink3Description: Package Specification; ComponentLink3URL: http://www.ti.com/lit/ds/symlink/tps65101.pdf
footprint TI-PWP24-4420X1950TP_N (SOP, 24-Leads, Body 7.8x4.4mm, Pitch 0.65mm, Thermal Pad 4.42x1.95mm, IPC Medium Density)
footprint TI-PWP24-4420X1950TP_L (SOP, 24-Leads, Body 7.8x4.4mm, Pitch 0.65mm, Thermal Pad 4.42x1.95mm, IPC High Density)
footprint TI-PWP24-4420X1950TP_M (SOP, 24-Leads, Body 7.8x4.4mm, Pitch 0.65mm, Thermal Pad 4.42x1.95mm, IPC Low Density)
pins: 1 GND (power) "Ground for control logic and current sink", 2 SDI (in) "Serial-data input to the Shift register", 3 CLK (in) "Clock input for data shift on rising edge", 4 LE(ED1) (in) "Data strobe input   Serial data is transferred to the respective latch when LE(ED1) is high. The data is latched when LE(ED1) goes low. Also, a control signal input for an Error Detection mode and Current Adjust mode (See (See Datasheet)", 5 OUT0 (out) "Constant-current output", 6 OUT1 (out) "Constant-current output", 7 OUT2 (out) "Constant-current output", 8 OUT3 (out) "Constant-current output", 9 OUT4 (out) "Constant-current output", 10 OUT5 (out) "Constant-current output", 11 OUT6 (out) "Constant-current output", 12 OUT7 (out) "Constant-current output", 13 OUT8 (out) "Constant-current output", 14 OUT9 (out) "Constant-current output", 15 OUT10 (out) "Constant-current output", 16 OUT11 (out) "Constant-current output", 17 OUT12 (out) "Constant-current output", 18 OUT13 (out) "Constant-current output", 19 OUT14 (out) "Constant-current output", 20 OUT15 (out) "Constant-current output", 21 ~{OE}(ED2) (in) "Output enable. When O\E\ (ED2)(active) is low, the output drivers are enabled; when O\E\(ED2) is high, all output drivers are turned OFF (blanked). Also, a control signal input for an Error Detection mode and Current Adjust (See Datasheet)", 22 SDO (out) "Serial-data output to the following SDI of next driver IC or to the microcontroller", 23 R-EXT (in) "Input pin used to connect an external resistor for setting up all output currents", 24 VDD (power) "Supply voltage", 25 EP (power) "Connect to GND. The thermal pad should be soldered to ground in all applications."

## TLC5928DBQ
designator U?
16-Channel Constant Current LED Driver with LED Open Detection, 3 to 5.5 V, -40 to 85 degC, 24-pin SOP (DBQ24), Green (RoHS & no Sb/Br); Manufacturer: Texas Instruments; PartNumber: TLC5928DBQ; Rating: Catalog; Vin(Max)(V): 5.5; Vin(Min)(V): 3; DatasheetVersion: SBVS120E; PackageVersion: 4073301-4/H; PackageReference: DBQ24; PackageDescription: 24-Pin Plastic Small-Outline, Body 8.65 x 3.90 mm, Pitch 0.635 mm; Supplier 1: Digi-Key; Supplier Part Number 1: 296-34376-5-ND; Supplier 2: Mouser; Supplier Part Number 2: 595-TLC5928DBQ; Eco-Plan: Green (RoHS & no Sb/Br); SubFamily: LED Driver; Mounting Technology: Surface Mount; Code_JEDEC: MO-137; ComponentLink1Description: Manufacturer URL; ComponentLink1URL: http://www.ti.com/; ComponentLink2Description: Datasheet; ComponentLink2URL: http://www.ti.com/general/docs/lit/getliterature.tsp?genericPartNumber=TLC5928&fileType=pdf; ComponentLink3Description: Package Specification; ComponentLink3URL: http://www.ti.com/litv/pdf/mpds211a
footprint TI-DBQ24_N (SOP, 24-Leads, Body 8.65x6mm, Pitch 0.635mm, IPC Medium Density)
footprint TI-DBQ24_L (SOP, 24-Leads, Body 8.65x6mm, Pitch 0.635mm, IPC High Density)
footprint TI-DBQ24_M (SOP, 24-Leads, Body 8.65x6mm, Pitch 0.635mm, IPC Low Density)
pins: 1 GND (power) "Power ground", 2 SIN (in) "Serial data input for driver on/off control. When SIN=high level, data '1' are written into LSB of the on/off control shift register at the rising edge of SCLK.", 3 SCLK (in) "Serial data shift clock. Schmitt buffer input. All data in the on/off control shift register are shifted toward the MSB by 1-bit synchronization of SCLK. A rising edge on SCLK is allowed 100 ns after a rising edge of LAT.", 4 LAT (in) "Edge triggered latch. The data in the on/off control data shift register are transferred to the on/off control data latch at this rising edge. At the same time, the data in the on/off control shift register are replaced with (See Datasheet)", 5 OUT0 (out) "Constant-current output.Each output can be tied together with others to increase the Constant-current. Different voltages can be applied to each output.", 6 OUT1 (out) "Constant-current output", 7 OUT2 (out) "Constant-current output", 8 OUT3 (out) "Constant-current output", 9 OUT4 (out) "Constant-current output", 10 OUT5 (out) "Constant-current output", 11 OUT6 (out) "Constant-current output", 12 OUT7 (out) "Constant-current output", 13 OUT8 (out) "Constant-current output", 14 OUT9 (out) "Constant-current output", 15 OUT10 (out) "Constant-current output", 16 OUT11 (out) "Constant-current output", 17 OUT12 (out) "Constant-current output", 18 OUT13 (out) "Constant-current output", 19 OUT14 (out) "Constant-current output", 20 OUT15 (out) "Constant-current output", 21 BLANK (in) "Blank, all outputs. When BLANK = high level, all constant-current outputs (OUT0-OUT15) are forced off.When BLANK=low level, all constant-current outputs are controlled by the on/off control data in the data latch.LOD and PTW (See Datasheet)", 22 SOUT (out) "Serial data onput. This output is connected to the MSB of the on/off data shift register .SOUT data changes at the rising edge of SCLK.", 23 IREF (in) "Constant-current value setting.OUT0-OUT15 sink Constant-current is set to desired value by connection to an external resistor between IREF and GND.", 24 VCC (power) "Power-supply voltage"